# Altium schematic symbol library Linear.SchLib: 2 symbols
Pins are listed as number, name and electrical type; pins without a type are passive.

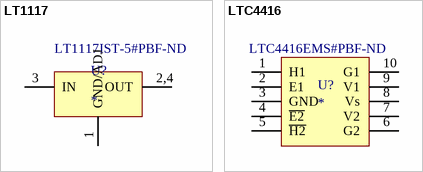
[diagram p0: symbols LT1117 to LTC4416]

## LT1117
designator U?  Supplier Part Number 1: LT1117IST-5#PBF-ND
800mA Low Dropout Positive Regulators Adj/Fixed 2.85V,3.3V,5V; Supplier 1: Digi-Key
footprint SOT230P700X180-4L (SOT223, 4-Leads, Body 6.50x7.00mm (avg), Pitch 2.30mm, IPC High Density)
pins: 1 GND/ADJ, 2,4 OUT, 3 IN

## LTC4416
designator U?  Supplier Part Number 1: LTC4416EMS#PBF-ND
36V, Low Loss Dual PowerPath Controller for Large PFETs; Supplier 1: Digi-Key
footprint MSOP50P490X110-10L (MSOP, 10-Leads, Body 3,00x3,00mm, Pitch 0,50mm, IPC High Density)
pins: 1 H1, 2 E1, 3 GND, 4 ~{E2}, 5 ~{H2}, 6 G2, 7 V2, 8 Vs, 9 V1, 10 G1